# Altium schematic symbol library IC.SCHLIB: 40 symbols
Pins are listed as number, name and electrical type; pins without a type are passive.

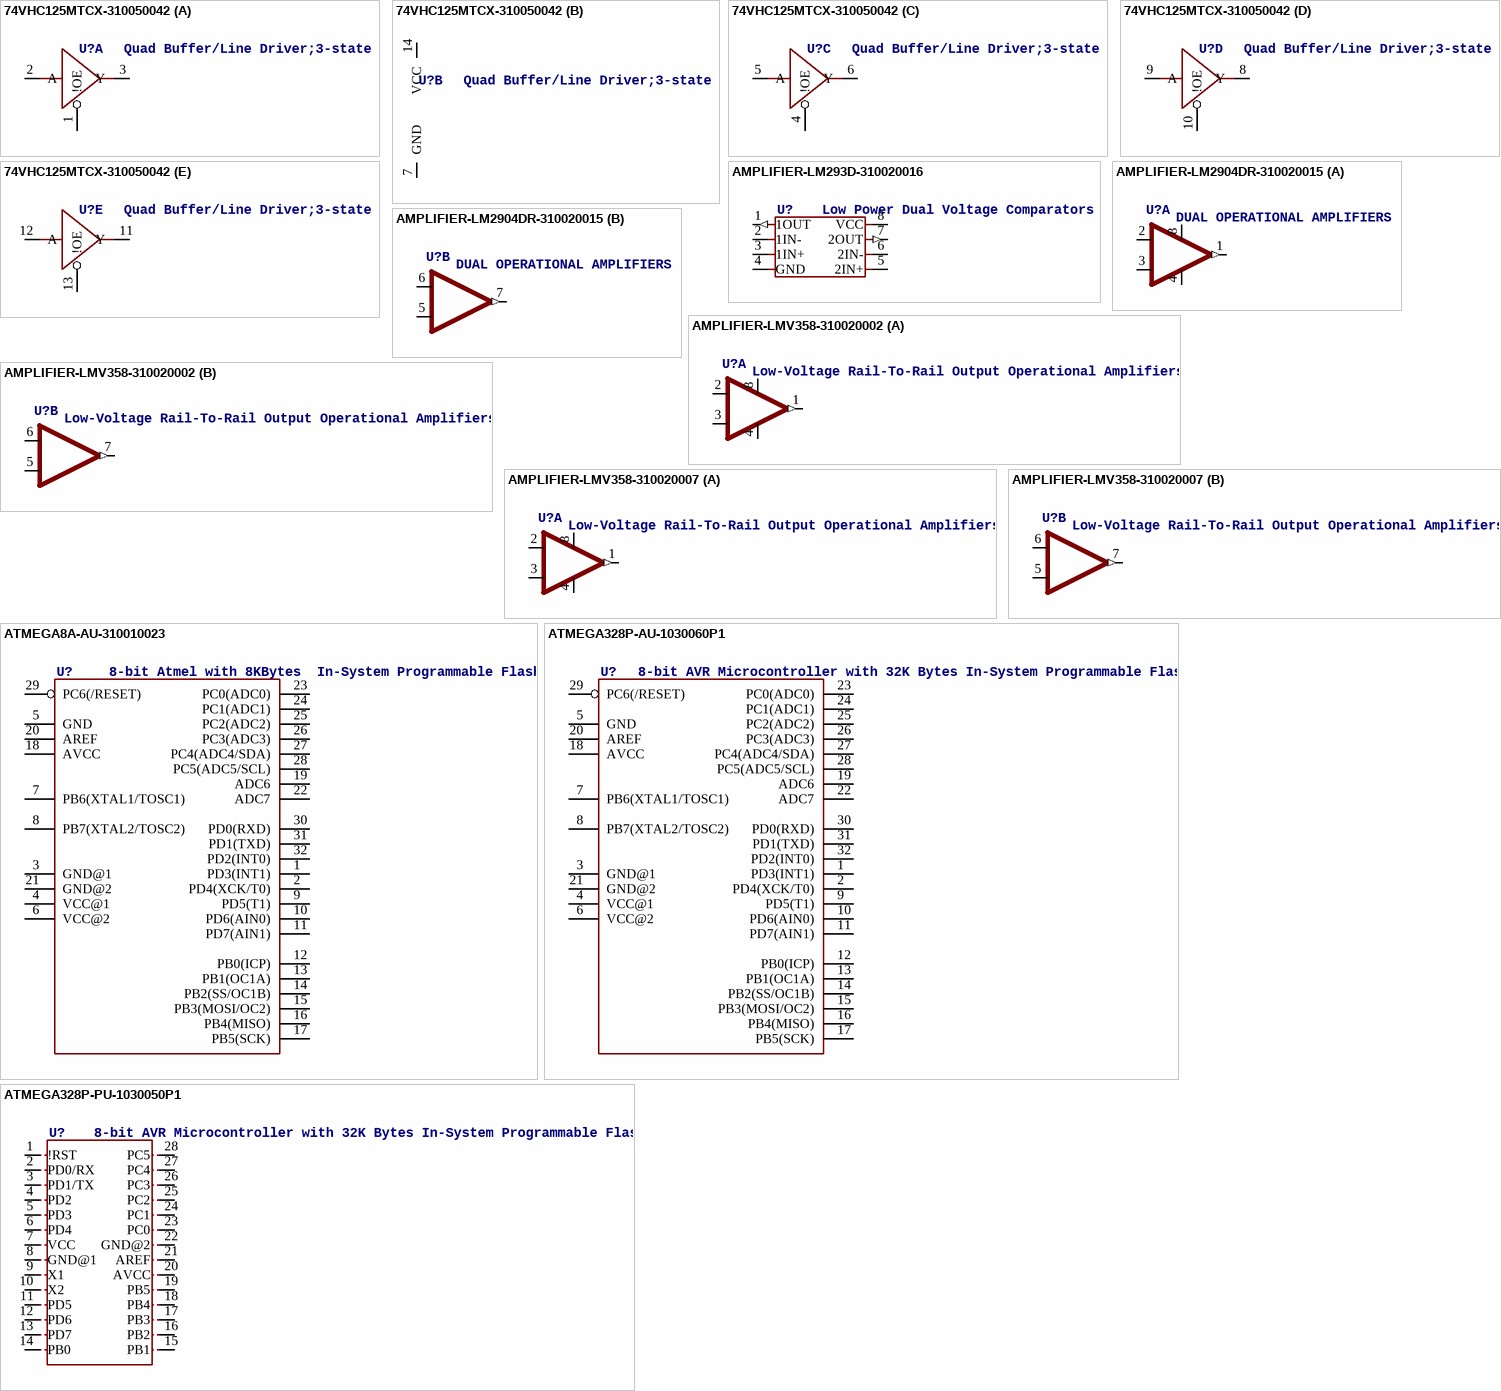
[diagram p0: symbols 74VHC125MTCX-310050042 to ATMEGA328P-PU-1030050P1]

## 74VHC125MTCX-310050042
designator U?, comment Quad Buffer/Line Driver;3-state
footprint TSSOP-14
part A pins: 1 !OE, 2 A, 3 Y
part B pins: 7 GND (oe), 14 VCC (oe)
part C pins: 4 !OE, 5 A, 6 Y
part D pins: 8 Y, 9 A, 10 !OE
part E pins: 11 Y, 12 A, 13 !OE

## AMPLIFIER-LM293D-310020016
designator U?, comment Low Power Dual Voltage Comparators
footprint SOIC-8
pins: 1 1OUT (out), 2 1IN-, 3 1IN+, 4 GND (oe), 5 2IN+, 6 2IN-, 7 2OUT (out), 8 VCC (oe)

## AMPLIFIER-LM2904DR-310020015
designator U?, comment DUAL OPERATIONAL AMPLIFIERS
footprint SOIC-8
part A pins: 1 OUT1 (out), 2 -IN1, 3 +IN1, 4 GND (power), 8 +V (power)
part B pins: 5 +IN2, 6 -IN2, 7 OUT2 (out)

## AMPLIFIER-LMV358-310020002
designator U?, comment Low-Voltage Rail-To-Rail Output Operational Amplifiers
footprint SOIC-8
part A pins: 1 OUT1 (out), 2 -IN1, 3 +IN1, 4 GND (power), 8 +V (power)
part B pins: 5 +IN2, 6 -IN2, 7 OUT2 (out)

## AMPLIFIER-LMV358-310020007
designator U?, comment Low-Voltage Rail-To-Rail Output Operational Amplifiers
footprint MSOP-8
part A pins: 1 OUT1 (out), 2 -IN1, 3 +IN1, 4 GND (power), 8 +V (power)
part B pins: 5 +IN2, 6 -IN2, 7 OUT2 (out)

## ATMEGA8A-AU-310010023
designator U?, comment 8-bit Atmel with 8KBytes  In-System Programmable Flash
footprint TQFP32
pins: 1 PD3(INT1), 2 PD4(XCK/T0), 3 GND@1, 4 VCC@1, 5 GND, 6 VCC@2, 7 PB6(XTAL1/TOSC1), 8 PB7(XTAL2/TOSC2), 9 PD5(T1), 10 PD6(AIN0), 11 PD7(AIN1), 12 PB0(ICP), 13 PB1(OC1A), 14 PB2(SS/OC1B), 15 PB3(MOSI/OC2), 16 PB4(MISO), 17 PB5(SCK), 18 AVCC, 19 ADC6, 20 AREF, 21 GND@2, 22 ADC7, 23 PC0(ADC0), 24 PC1(ADC1), 25 PC2(ADC2), 26 PC3(ADC3), 27 PC4(ADC4/SDA), 28 PC5(ADC5/SCL), 29 PC6(/RESET), 30 PD0(RXD), 31 PD1(TXD), 32 PD2(INT0)

## ATMEGA328P-AU-1030060P1
designator U?, comment 8-bit AVR Microcontroller with 32K Bytes In-System Programmable Flash
footprint TQFP32
pins: 1 PD3(INT1), 2 PD4(XCK/T0), 3 GND@1, 4 VCC@1, 5 GND, 6 VCC@2, 7 PB6(XTAL1/TOSC1), 8 PB7(XTAL2/TOSC2), 9 PD5(T1), 10 PD6(AIN0), 11 PD7(AIN1), 12 PB0(ICP), 13 PB1(OC1A), 14 PB2(SS/OC1B), 15 PB3(MOSI/OC2), 16 PB4(MISO), 17 PB5(SCK), 18 AVCC, 19 ADC6, 20 AREF, 21 GND@2, 22 ADC7, 23 PC0(ADC0), 24 PC1(ADC1), 25 PC2(ADC2), 26 PC3(ADC3), 27 PC4(ADC4/SDA), 28 PC5(ADC5/SCL), 29 PC6(/RESET), 30 PD0(RXD), 31 PD1(TXD), 32 PD2(INT0)

## ATMEGA328P-PU-1030050P1
designator U?, comment 8-bit AVR Microcontroller with 32K Bytes In-System Programmable Flash
footprint DIP28
pins: 1 !RST, 2 PD0/RX, 3 PD1/TX, 4 PD2, 5 PD3, 6 PD4, 7 VCC, 8 GND@1, 9 X1, 10 X2, 11 PD5, 12 PD6, 13 PD7, 14 PB0, 15 PB1, 16 PB2, 17 PB3, 18 PB4, 19 PB5, 20 AVCC, 21 AREF, 22 GND@2, 23 PC0, 24 PC1, 25 PC2, 26 PC3, 27 PC4, 28 PC5

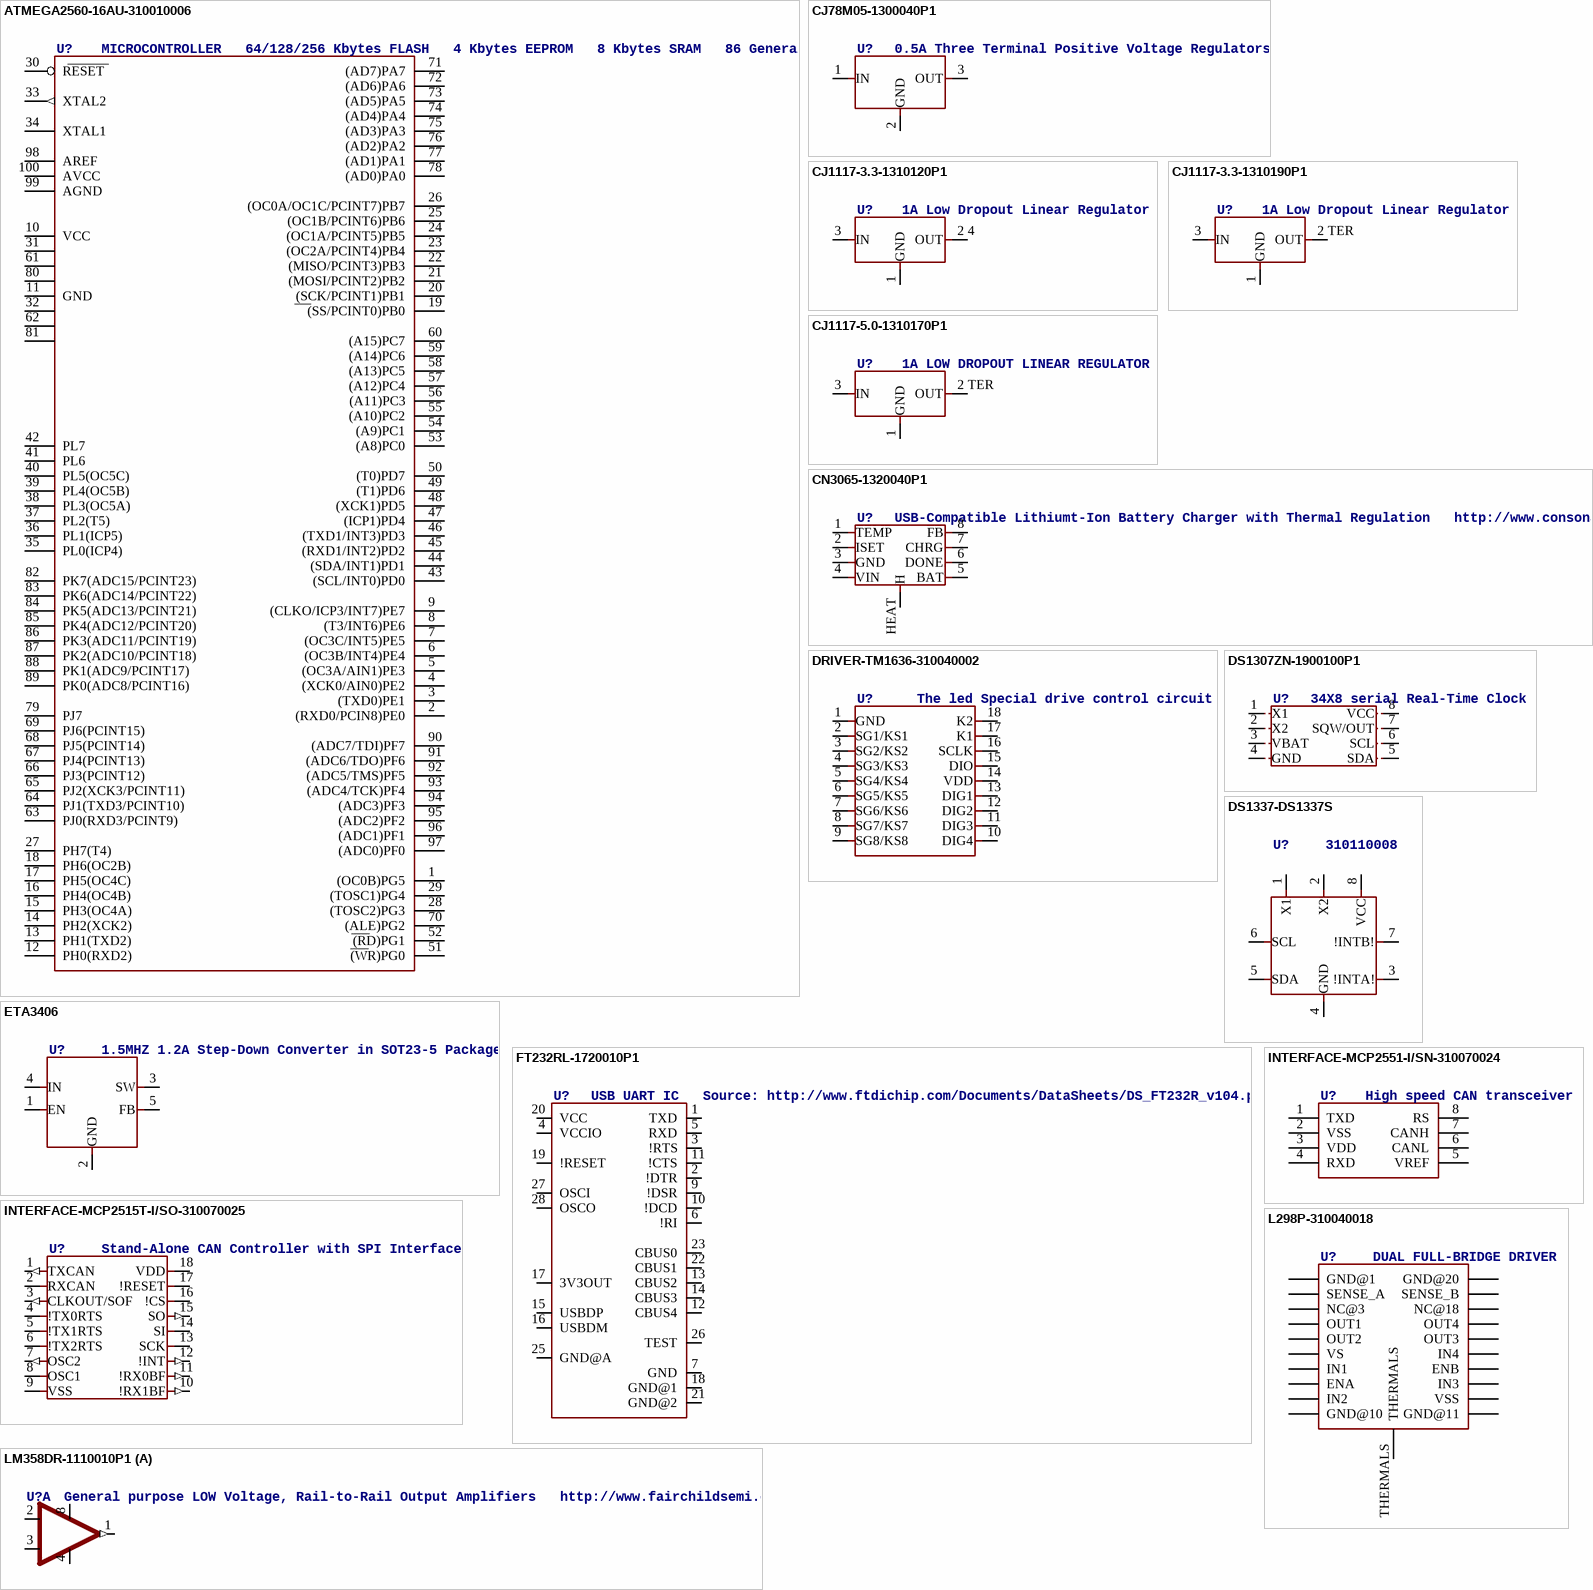
[diagram p1: symbols ATMEGA2560-16AU-310010006 to LM358DR-1110010P1]

## ATMEGA2560-16AU-310010006
designator U?, comment MICROCONTROLLER   64/128/256 Kbytes FLASH   4 Kbytes EEPROM   8 Kbytes SRAM   86 General Purpose I/O pins   12-channels16-bit PWM   4 x Serial USARTs   16-channels 10-bit A/D   http://search.digikey.com/scripts/DkSearch/dksus.dll?Cat=2556109&k=ATMEGA
footprint TQFP-100
pins: 1 (OC0B)PG5, 2 (RXD0/PCIN8)PE0, 3 (TXD0)PE1, 4 (XCK0/AIN0)PE2, 5 (OC3A/AIN1)PE3, 6 (OC3B/INT4)PE4, 7 (OC3C/INT5)PE5, 8 (T3/INT6)PE6, 9 (CLKO/ICP3/INT7)PE7, 10 VCC (power), 11 GND (power), 12 PH0(RXD2), 13 PH1(TXD2), 14 PH2(XCK2), 15 PH3(OC4A), 16 PH4(OC4B), 17 PH5(OC4C), 18 PH6(OC2B), 19 (SS/PCINT0)PB0, 20 (SCK/PCINT1)PB1, 21 (MOSI/PCINT2)PB2, 22 (MISO/PCINT3)PB3, 23 (OC2A/PCINT4)PB4, 24 (OC1A/PCINT5)PB5, 25 (OC1B/PCINT6)PB6, 26 (OC0A/OC1C/PCINT7)PB7, 27 PH7(T4), 28 (TOSC2)PG3, 29 (TOSC1)PG4, 30 RESET, 31 VCC1 (power), 32 GND1 (power), 33 XTAL2 (out), 34 XTAL1, 35 PL0(ICP4), 36 PL1(ICP5), 37 PL2(T5), 38 PL3(OC5A), 39 PL4(OC5B), 40 PL5(OC5C), 41 PL6, 42 PL7, 43 (SCL/INT0)PD0, 44 (SDA/INT1)PD1, 45 (RXD1/INT2)PD2, 46 (TXD1/INT3)PD3, 47 (ICP1)PD4, 48 (XCK1)PD5, 49 (T1)PD6, 50 (T0)PD7, 51 (WR)PG0, 52 (RD)PG1, 53 (A8)PC0, 54 (A9)PC1, 55 (A10)PC2, 56 (A11)PC3, 57 (A12)PC4, 58 (A13)PC5, 59 (A14)PC6, 60 (A15)PC7, 61 VCC2 (power), 62 GND2 (power), 63 PJ0(RXD3/PCINT9), 64 PJ1(TXD3/PCINT10), 65 PJ2(XCK3/PCINT11), 66 PJ3(PCINT12), 67 PJ4(PCINT13), 68 PJ5(PCINT14), 69 PJ6(PCINT15), 70 (ALE)PG2, 71 (AD7)PA7, 72 (AD6)PA6, 73 (AD5)PA5, 74 (AD4)PA4, 75 (AD3)PA3, 76 (AD2)PA2, 77 (AD1)PA1, 78 (AD0)PA0, 79 PJ7, 80 VCC3 (power), 81 GND3 (power), 82 PK7(ADC15/PCINT23), 83 PK6(ADC14/PCINT22), 84 PK5(ADC13/PCINT21), 85 PK4(ADC12/PCINT20), 86 PK3(ADC11/PCINT19), 87 PK2(ADC10/PCINT18), 88 PK1(ADC9/PCINT17), 89 PK0(ADC8/PCINT16), 90 (ADC7/TDI)PF7, 91 (ADC6/TDO)PF6, 92 (ADC5/TMS)PF5, 93 (ADC4/TCK)PF4, 94 (ADC3)PF3, 95 (ADC2)PF2, 96 (ADC1)PF1, 97 (ADC0)PF0, 98 AREF, 99 AGND (power), 100 AVCC (power)

## CJ78M05-1300040P1
designator U?, comment 0.5A Three Terminal Positive Voltage Regulators
footprint TO252
pins: 1 IN, 2 GND, 3 OUT

## CJ1117-3.3-1310120P1
designator U?, comment 1A Low Dropout Linear Regulator
footprint SOT89
pins: 1 GND, 2 4 OUT, 3 IN

## CJ1117-3.3-1310190P1
designator U?, comment 1A Low Dropout Linear Regulator
footprint SOT223
pins: 1 GND, 2 TER OUT, 3 IN

## CJ1117-5.0-1310170P1
designator U?, comment 1A LOW DROPOUT LINEAR REGULATOR
footprint SOT223
pins: 1 GND, 2 TER OUT, 3 IN

## CN3065-1320040P1
designator U?, comment USB-Compatible Lithiumt-Ion Battery Charger with Thermal Regulation   http://www.consonance-elec.com/pdf/%E6%8A%80%E6%9C%AF%E8%AF%B4%E6%98%8E%E4%B9%A6/DSC-CN3065.pdf
footprint DFN8
pins: 1 TEMP, 2 ISET, 3 GND (oe), 4 VIN, 5 BAT, 6 DONE, 7 CHRG, 8 FB, HEAT H

## DRIVER-TM1636-310040002
designator U?, comment The led Special drive control circuit
footprint DIP-18
pins: 1 GND, 2 SG1/KS1, 3 SG2/KS2, 4 SG3/KS3, 5 SG4/KS4, 6 SG5/KS5, 7 SG6/KS6, 8 SG7/KS7, 9 SG8/KS8, 10 DIG4, 11 DIG3, 12 DIG2, 13 DIG1, 14 VDD, 15 DIO, 16 SCLK, 17 K1, 18 K2

## DS1307ZN-1900100P1
designator U?, comment 34X8 serial Real-Time Clock
footprint SOIC8
pins: 1 X1, 2 X2, 3 VBAT, 4 GND, 5 SDA, 6 SCL, 7 SQW/OUT, 8 VCC

## DS1337-DS1337S
designator U?, comment 310110008
footprint SOIC-8
pins: 1 X1, 2 X2, 3 !INTA!, 4 GND, 5 SDA, 6 SCL, 7 !INTB!, 8 VCC

## ETA3406
designator U?, comment 1.5MHZ 1.2A Step-Down Converter in SOT23-5 Package
footprint SOT23-5
pins: 1 EN, 2 GND, 3 SW, 4 IN, 5 FB

## FT232RL-1720010P1
designator U?, comment USB UART IC   Source: http://www.ftdichip.com/Documents/DataSheets/DS_FT232R_v104.pdf
footprint SSOP28
pins: 1 TXD, 2 !DTR, 3 !RTS, 4 VCCIO, 5 RXD, 6 !RI, 7 GND, 9 !DSR, 10 !DCD, 11 !CTS, 12 CBUS4, 13 CBUS2, 14 CBUS3, 15 USBDP, 16 USBDM, 17 3V3OUT, 18 GND@1, 19 !RESET, 20 VCC, 21 GND@2, 22 CBUS1, 23 CBUS0, 25 GND@A, 26 TEST, 27 OSCI, 28 OSCO

## INTERFACE-MCP2515T-I/SO-310070025
designator U?, comment Stand-Alone CAN Controller with SPI Interface
footprint SOIC-18
pins: 1 TXCAN (out), 2 RXCAN, 3 CLKOUT/SOF (out), 4 !TX0RTS, 5 !TX1RTS, 6 !TX2RTS, 7 OSC2 (out), 8 OSC1, 9 VSS (oe), 10 !RX1BF (out), 11 !RX0BF (out), 12 !INT (out), 13 SCK, 14 SI, 15 SO (out), 16 !CS, 17 !RESET, 18 VDD (oe)

## INTERFACE-MCP2551-I/SN-310070024
designator U?, comment High speed CAN transceiver
footprint SOIC-8
pins: 1 TXD, 2 VSS, 3 VDD, 4 RXD, 5 VREF, 6 CANL, 7 CANH, 8 RS

## L298P-310040018
designator U?, comment DUAL FULL-BRIDGE DRIVER
footprint POWERSO-20
pins: P$1 GND@1, P$2 SENSE_A, P$3 NC@3, P$4 OUT1, P$5 OUT2, P$6 VS, P$7 IN1, P$8 ENA, P$9 IN2, P$10 GND@10, P$11 GND@11, P$12 VSS, P$13 IN3, P$14 ENB, P$15 IN4, P$16 OUT3, P$17 OUT4, P$18 NC@18, P$19 SENSE_B, P$20 GND@20, THERMALS

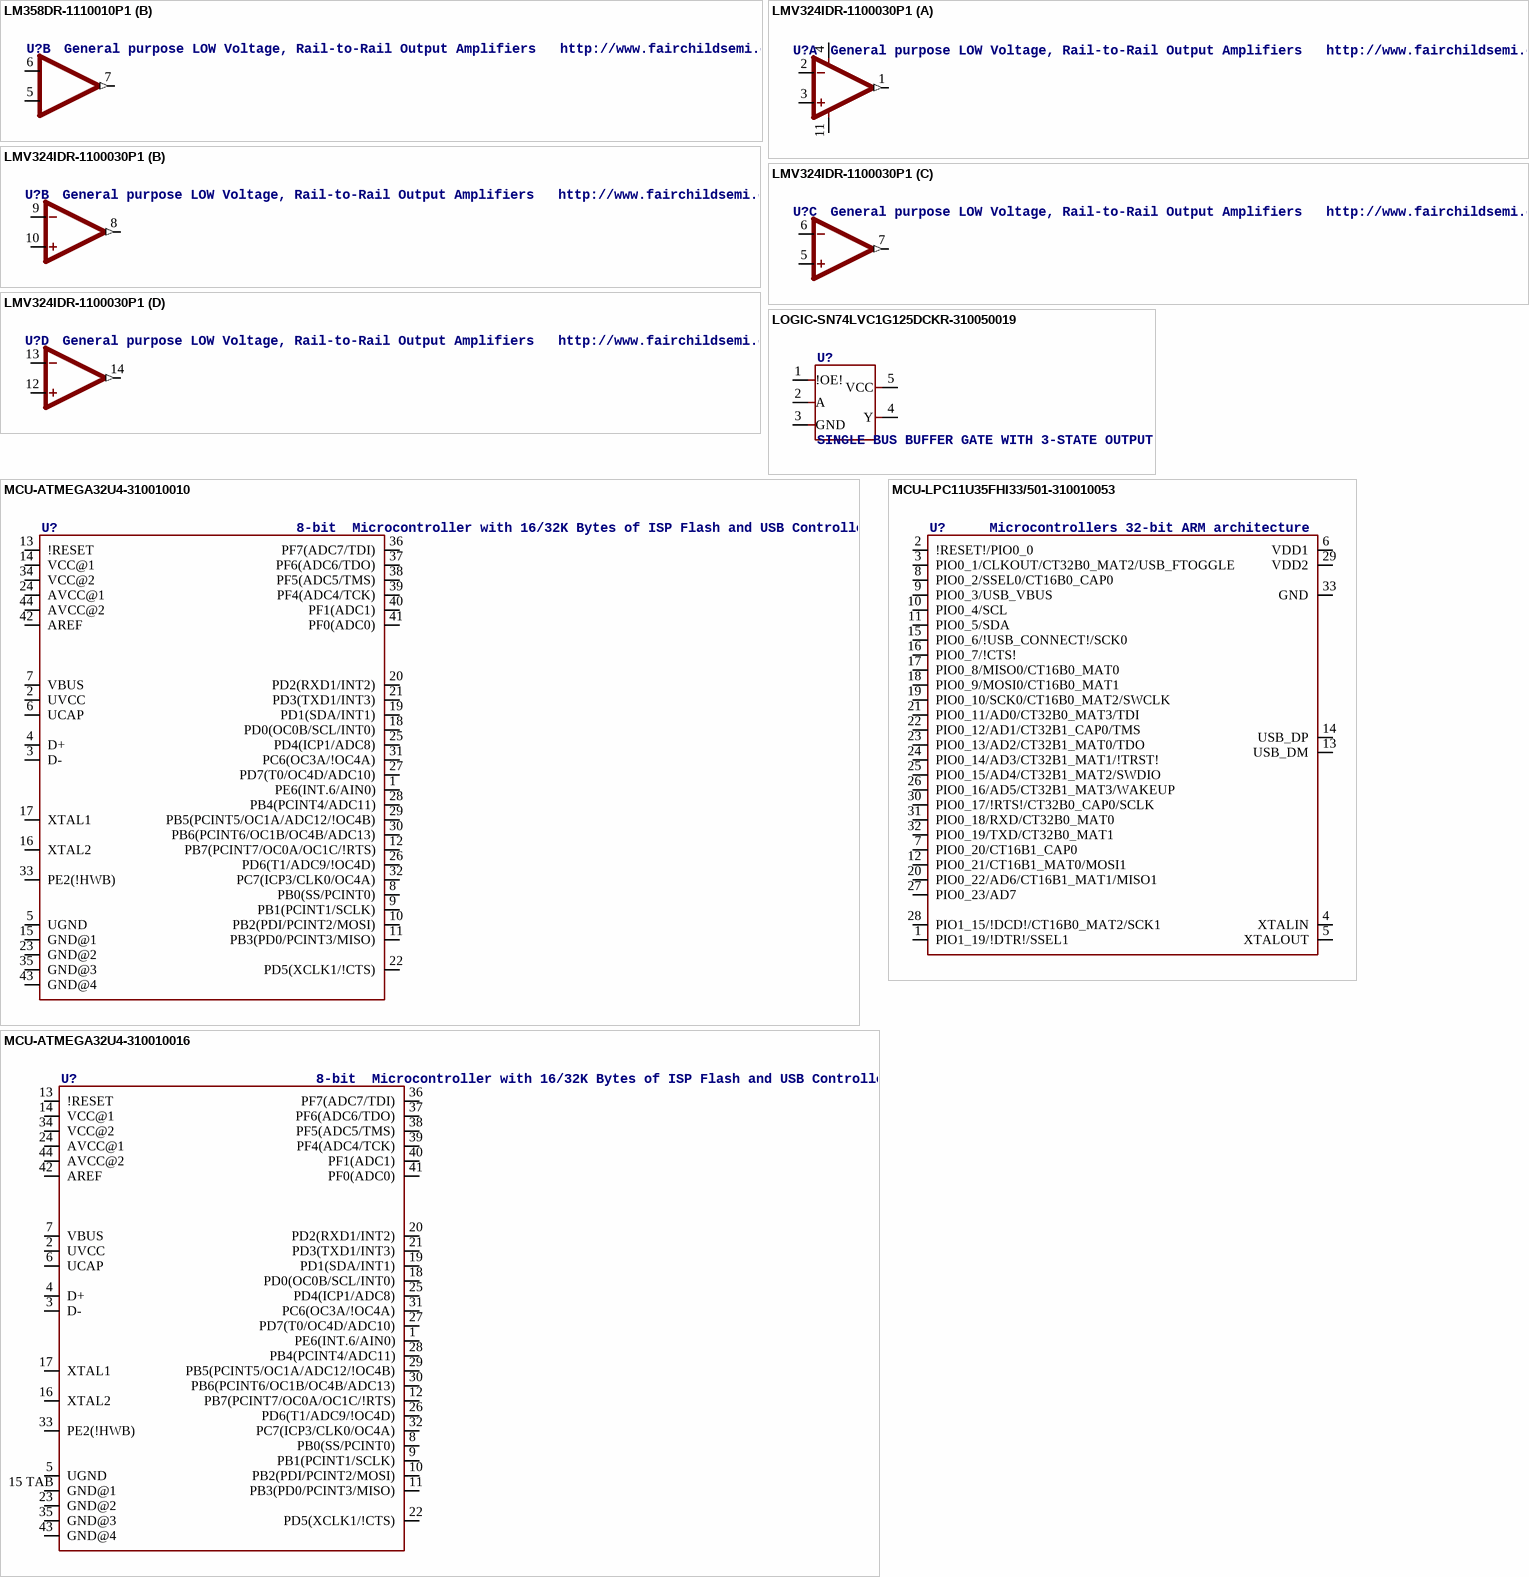
[diagram p2: symbols LM358DR-1110010P1 to MCU-LPC11U35FHI33/501-310010053]

## LM358DR-1110010P1
designator U?, comment General purpose LOW Voltage, Rail-to-Rail Output Amplifiers   http://www.fairchildsemi.com/ds/LM/LMV358.pdf
footprint SOIC8
part A pins: 1 OUT1 (out), 2 -IN1, 3 +IN1, 4 GND (power), 8 +V (power)
part B pins: 5 +IN2, 6 -IN2, 7 OUT2 (out)

## LMV324IDR-1100030P1
designator U?, comment General purpose LOW Voltage, Rail-to-Rail Output Amplifiers   http://www.fairchildsemi.com/ds/LM/LMV358.pdf
footprint SOIC14
part A pins: 1 OUT (out), 2 IN-, 3 IN+, 4 V+ (power), 11 V- (power)
part B pins: 8 OUT (out), 9 IN-, 10 IN+
part C pins: 5 IN+, 6 IN-, 7 OUT (out)
part D pins: 12 IN+, 13 IN-, 14 OUT (out)

## LOGIC-SN74LVC1G125DCKR-310050019
designator U?, comment SINGLE BUS BUFFER GATE WITH 3-STATE OUTPUT
footprint SC-70-5
pins: 1 !OE!, 2 A, 3 GND, 4 Y, 5 VCC

## MCU-ATMEGA32U4-310010010
designator U?, comment 8-bit  Microcontroller with 16/32K Bytes of ISP Flash and USB Controller
footprint TQFP-44
pins: 1 PE6(INT.6/AIN0), 2 UVCC, 3 D-, 4 D+, 5 UGND, 6 UCAP, 7 VBUS, 8 PB0(SS/PCINT0), 9 PB1(PCINT1/SCLK), 10 PB2(PDI/PCINT2/MOSI), 11 PB3(PD0/PCINT3/MISO), 12 PB7(PCINT7/OC0A/OC1C/!RTS), 13 !RESET, 14 VCC@1, 15 GND@1, 16 XTAL2, 17 XTAL1, 18 PD0(OC0B/SCL/INT0), 19 PD1(SDA/INT1), 20 PD2(RXD1/INT2), 21 PD3(TXD1/INT3), 22 PD5(XCLK1/!CTS), 23 GND@2, 24 AVCC@1, 25 PD4(ICP1/ADC8), 26 PD6(T1/ADC9/!OC4D), 27 PD7(T0/OC4D/ADC10), 28 PB4(PCINT4/ADC11), 29 PB5(PCINT5/OC1A/ADC12/!OC4B), 30 PB6(PCINT6/OC1B/OC4B/ADC13), 31 PC6(OC3A/!OC4A), 32 PC7(ICP3/CLK0/OC4A), 33 PE2(!HWB), 34 VCC@2, 35 GND@3, 36 PF7(ADC7/TDI), 37 PF6(ADC6/TDO), 38 PF5(ADC5/TMS), 39 PF4(ADC4/TCK), 40 PF1(ADC1), 41 PF0(ADC0), 42 AREF, 43 GND@4, 44 AVCC@2

## MCU-ATMEGA32U4-310010016
designator U?, comment 8-bit  Microcontroller with 16/32K Bytes of ISP Flash and USB Controller
footprint VQFN-44
pins: 1 PE6(INT.6/AIN0), 2 UVCC, 3 D-, 4 D+, 5 UGND, 6 UCAP, 7 VBUS, 8 PB0(SS/PCINT0), 9 PB1(PCINT1/SCLK), 10 PB2(PDI/PCINT2/MOSI), 11 PB3(PD0/PCINT3/MISO), 12 PB7(PCINT7/OC0A/OC1C/!RTS), 13 !RESET, 14 VCC@1, 15 TAB GND@1, 16 XTAL2, 17 XTAL1, 18 PD0(OC0B/SCL/INT0), 19 PD1(SDA/INT1), 20 PD2(RXD1/INT2), 21 PD3(TXD1/INT3), 22 PD5(XCLK1/!CTS), 23 GND@2, 24 AVCC@1, 25 PD4(ICP1/ADC8), 26 PD6(T1/ADC9/!OC4D), 27 PD7(T0/OC4D/ADC10), 28 PB4(PCINT4/ADC11), 29 PB5(PCINT5/OC1A/ADC12/!OC4B), 30 PB6(PCINT6/OC1B/OC4B/ADC13), 31 PC6(OC3A/!OC4A), 32 PC7(ICP3/CLK0/OC4A), 33 PE2(!HWB), 34 VCC@2, 35 GND@3, 36 PF7(ADC7/TDI), 37 PF6(ADC6/TDO), 38 PF5(ADC5/TMS), 39 PF4(ADC4/TCK), 40 PF1(ADC1), 41 PF0(ADC0), 42 AREF, 43 GND@4, 44 AVCC@2

## MCU-LPC11U35FHI33/501-310010053
designator U?, comment Microcontrollers 32-bit ARM architecture
footprint HVQFN-32
pins: 1 PIO1_19/!DTR!/SSEL1, 2 !RESET!/PIO0_0, 3 PIO0_1/CLKOUT/CT32B0_MAT2/USB_FTOGGLE, 4 XTALIN, 5 XTALOUT, 6 VDD1, 7 PIO0_20/CT16B1_CAP0, 8 PIO0_2/SSEL0/CT16B0_CAP0, 9 PIO0_3/USB_VBUS, 10 PIO0_4/SCL, 11 PIO0_5/SDA, 12 PIO0_21/CT16B1_MAT0/MOSI1, 13 USB_DM, 14 USB_DP, 15 PIO0_6/!USB_CONNECT!/SCK0, 16 PIO0_7/!CTS!, 17 PIO0_8/MISO0/CT16B0_MAT0, 18 PIO0_9/MOSI0/CT16B0_MAT1, 19 PIO0_10/SCK0/CT16B0_MAT2/SWCLK, 20 PIO0_22/AD6/CT16B1_MAT1/MISO1, 21 PIO0_11/AD0/CT32B0_MAT3/TDI, 22 PIO0_12/AD1/CT32B1_CAP0/TMS, 23 PIO0_13/AD2/CT32B1_MAT0/TDO, 24 PIO0_14/AD3/CT32B1_MAT1/!TRST!, 25 PIO0_15/AD4/CT32B1_MAT2/SWDIO, 26 PIO0_16/AD5/CT32B1_MAT3/WAKEUP, 27 PIO0_23/AD7, 28 PIO1_15/!DCD!/CT16B0_MAT2/SCK1, 29 VDD2, 30 PIO0_17/!RTS!/CT32B0_CAP0/SCLK, 31 PIO0_18/RXD/CT32B0_MAT0, 32 PIO0_19/TXD/CT32B0_MAT1, 33 GND

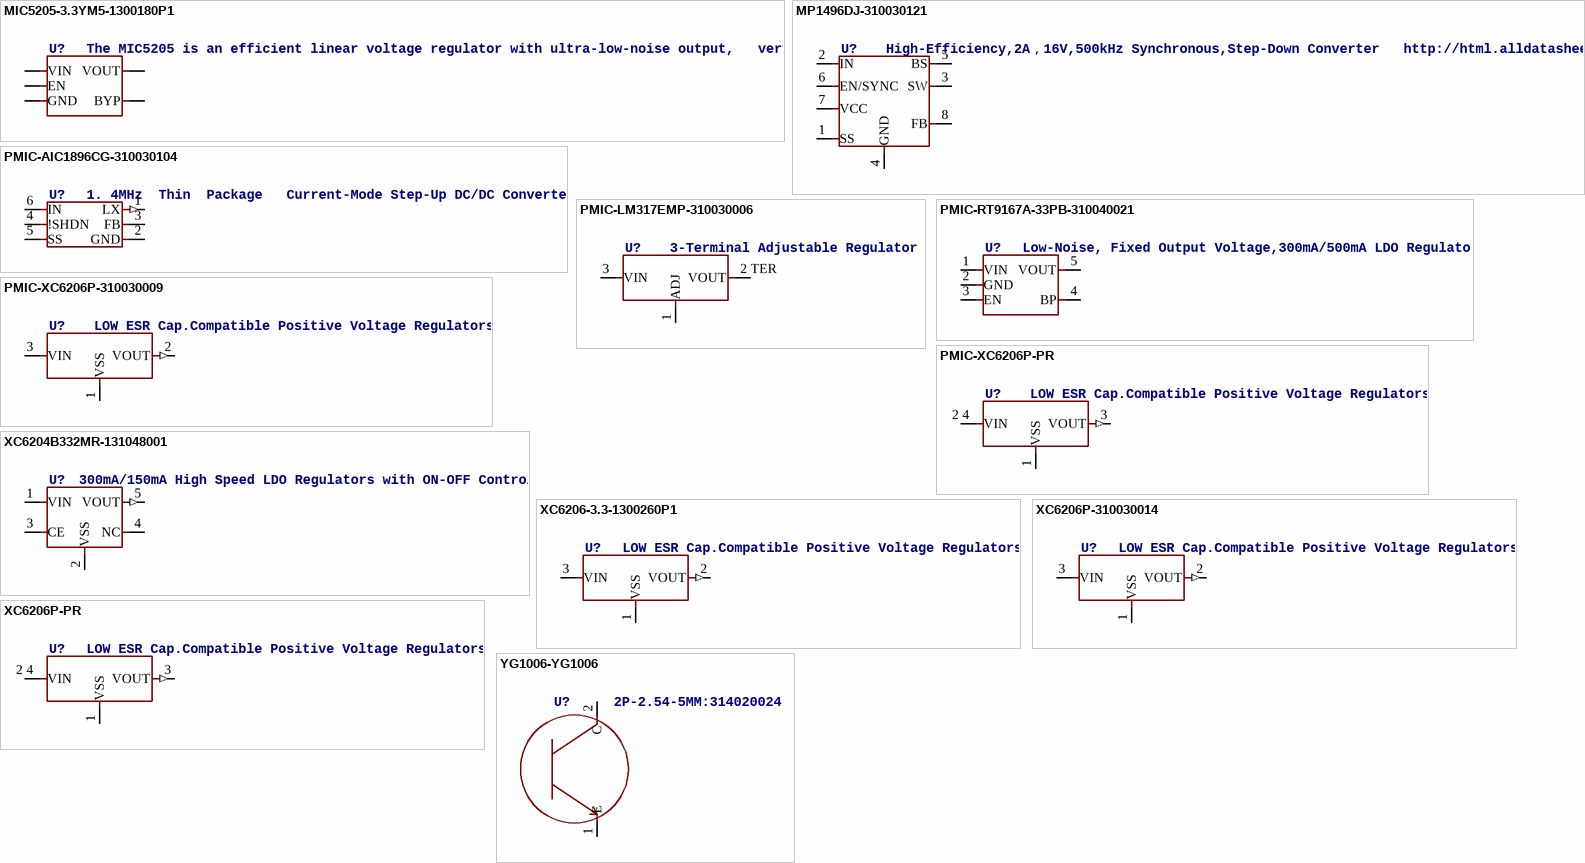
[diagram p3: symbols MIC5205-3.3YM5-1300180P1 to YG1006-YG1006]

## MIC5205-3.3YM5-1300180P1
designator U?, comment The MIC5205 is an efficient linear voltage regulator with ultra-low-noise output,   very low dropout voltage (typically 17mV at light loads and 165mV at 150mA),   and very low ground current (600µA at 100mA output).   The MIC5205 offers better than 1% initial accuracy.   datasheet here: http://www.micrel.com/product-info/prod/5205.shtml
footprint SOT23-5
pins: 1 VIN, 2 GND, 3 EN, 4 BYP, 5 VOUT

## MP1496DJ-310030121
designator U?, comment High-Efficiency,2A，16V,500kHz Synchronous,Step-Down Converter   http://html.alldatasheetcn.com/html-pdf/551584/MPS/MP1496DJ/55/1/MP1496DJ.html
footprint TSOT23-8
pins: 1 SS, 2 IN, 3 SW, 4 GND, 5 BS, 6 EN/SYNC, 7 VCC, 8 FB

## PMIC-AIC1896CG-310030104
designator U?, comment 1. 4MHz  Thin  Package   Current-Mode Step-Up DC/DC Converter
footprint SOT23-6
pins: 1 LX (out), 2 GND (power), 3 FB, 4 !SHDN, 5 SS, 6 IN

## PMIC-LM317EMP-310030006
designator U?, comment 3-Terminal Adjustable Regulator
footprint SOT-223
pins: 1 ADJ, 2 TER VOUT, 3 VIN

## PMIC-RT9167A-33PB-310040021
designator U?, comment Low-Noise, Fixed Output Voltage,300mA/500mA LDO Regulator
footprint SOT-23-5
pins: 1 VIN, 2 GND, 3 EN, 4 BP, 5 VOUT

## PMIC-XC6206P-310030009
designator U?, comment LOW ESR Cap.Compatible Positive Voltage Regulators
footprint SOT-23
pins: 1 VSS (oe), 2 VOUT (out), 3 VIN

## PMIC-XC6206P-PR
designator U?, comment LOW ESR Cap.Compatible Positive Voltage Regulators
footprint SOT-89
pins: 1 VSS (oe), 2 4 VIN, 3 VOUT (out)

## XC6204B332MR-131048001
designator U?, comment 300mA/150mA High Speed LDO Regulators with ON-OFF Control
footprint SOT25
pins: 1 VIN, 2 VSS (oe), 3 CE, 4 NC, 5 VOUT (out)

## XC6206-3.3-1300260P1
designator U?, comment LOW ESR Cap.Compatible Positive Voltage Regulators
footprint SOT23
pins: 1 VSS (oe), 2 VOUT (out), 3 VIN

## XC6206P-310030014
designator U?, comment LOW ESR Cap.Compatible Positive Voltage Regulators
footprint SOT-23
pins: 1 VSS (oe), 2 VOUT (out), 3 VIN

## XC6206P-PR
designator U?, comment LOW ESR Cap.Compatible Positive Voltage Regulators
footprint SOT-89
pins: 1 VSS (oe), 2 4 VIN, 3 VOUT (out)

## YG1006-YG1006
designator U?, comment 2P-2.54-5MM:314020024
footprint 2P-2.54-5MM
pins: 1 E, 2 C